# EAGLE library part FTSH-105-01-XXX-DV-K (library AxonMobile)
0.05"x0.05" DOUBLE ROW SMT STRIP ASSEMBLY. MANUFACTURER:SAMTEC.
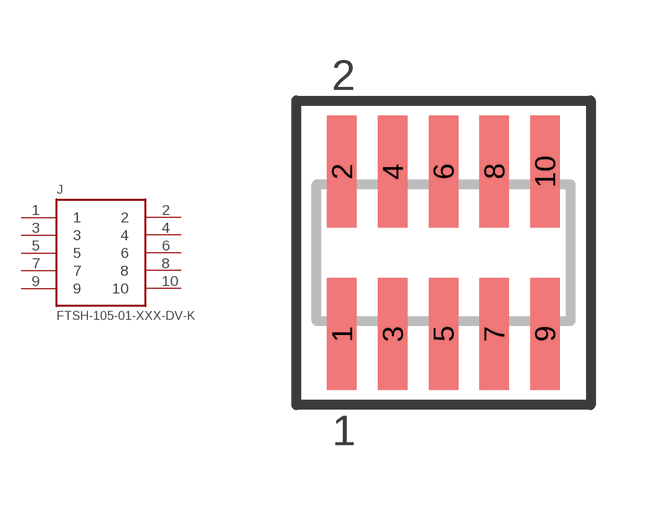
[diagram p3: symbol with the pads of FTSH-105-01-XXX-DV-K; footprint FTSH-105-01-XXX-DV-K]

Designator prefix J

## FTSH-105-01-XXX-DV-K  [FTSH-105-01-XXX-DV-K]
1  1
2  2
3  3
4  4
5  5
6  6
7  7
8  8
9  9
10  10

## Footprint FTSH-105-01-XXX-DV-K (pad centres in mm)
0.05"x0.05" DOUBLE ROW SMT STRIP ASSEMBLY. MANUFACTURER:SAMTEC.
smd 0.737 x 2.794: 1 -2.54,-2.032; 2 -2.54,2.032; 3 -1.27,-2.032; 4 -1.27,2.032; 5 0,-2.032; 6 0,2.032; 7 1.27,-2.032; 8 1.27,2.032; 9 2.54,-2.032; 10 2.54,2.032